# Altium footprint library CAPPRD400W50D850H1350.PcbLib: 1 footprints
Each footprint in its own frame and in the unit in brackets; x right, y up, seen from the top. Pads: shape width x height; smd on the part's side, far side on the other; paste and mask are expansions set on the pad; w line width, h text height; cw(c..) or ccw(c..) is an arc to the next point about the centre after c.
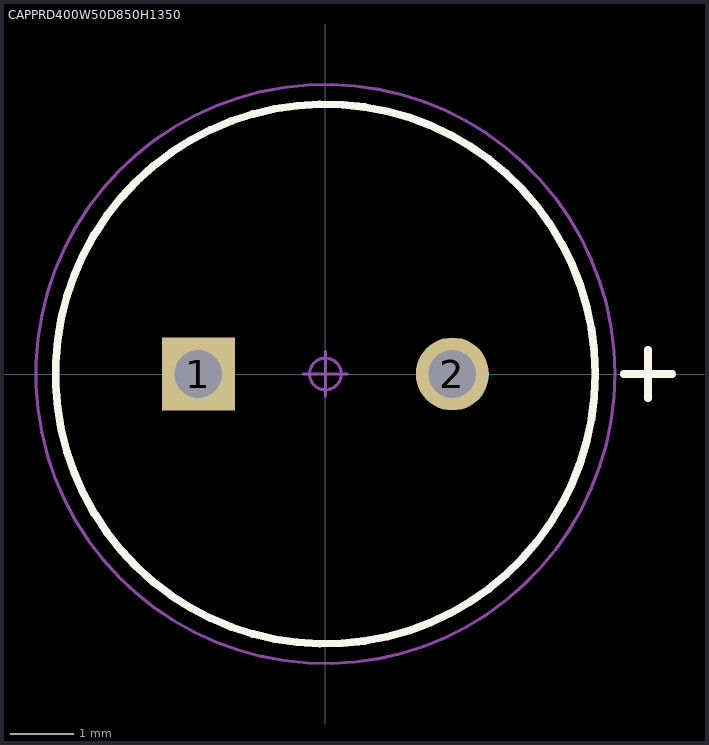
[diagram p0: the footprint, top view; thin cyan lines are the x and y axes]

## CAPPRD400W50D850H1350 [mm] "Capacitor, Polarized, Radial (Electrolytic); 4.00 mm pitch X 8.50 mm dia. X 13.50 mm H body"
height 13.5
pads (2):
  rect 1.15x1.15 / inner round 1.15 / far side rect 1.15x1.15 hole 0.75 paste-2539.97: 1(-2,0)
  round 1.15 hole 0.75 paste-2539.97: 2(2,0)
Top Overlay:
  circle w0.12: c0,0 r4.25
  lines w0.12: 4.699,0 5.461,0 ; 5.08,-0.381 5.08,0.381
Mechanical 11:
  circle w0.12: c0,0 r4.25
Mechanical 12:
  circle w0.025: c-2,0 r0.275
  circle w0.025: c2,0 r0.275
  circle w0.025: c0,0 r4.25
Mechanical 15:
  circle w0.05: c0,0 r4.56
  circle w0.05: c0,0 r0.25
  lines w0.05: -0.35,0 0.35,0 ; 0,-0.35 0,0.35
Mechanical 16:
  text ".Designator" at 0,0 h1.2
3D body "CAPPRD400W50D850H1350.STEP": height 13.51, standoff -2, extent -4.26,-4.25 4.241,4.25